# EAGLE library part RKJXT1F (library encoder)
4-directional Stick Switch (with Encoder + Center-push Function)
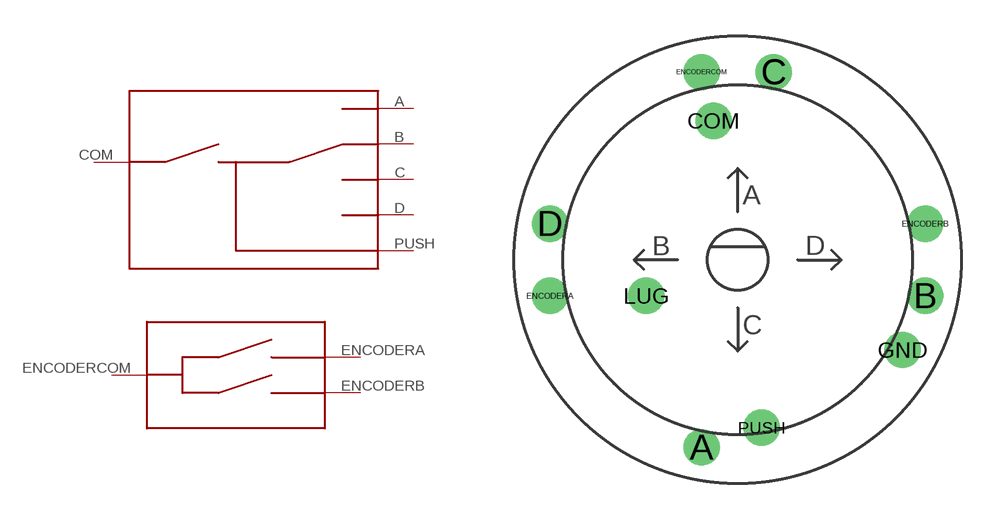
[diagram p0: symbol with the pads of RKJXT1F; footprint RKJXT1F]

Designator prefix ENC; gates G$1=STICK_SWITCH G$2=ENCODER

## RKJXT1F42001  [RKJXT1F]
A  G$1:A
B  G$1:B
C  G$1:C
COM  G$1:COM
D  G$1:D
ENCODERA  G$2:A
ENCODERB  G$2:B
ENCODERCOM  G$2:COM
PUSH  G$1:PUSH

## Footprint RKJXT1F (pad centres in mm)
drill 1: A -1.5,-7.8; B 7.8,-1.5; C 1.5,7.8; COM -1,5.78; D -7.8,1.5; ENCODERA -7.8,-1.5; ENCODERB 7.8,1.5; ENCODERCOM -1.5,7.8; GND 6.86,-3.75; LUG -3.8,-1.5; PUSH 1,-6.98